# EAGLE library part CONN_FPC_10 (library PX4FMUlite_V0_1)
10-pin FPC connector for PX4 sensor board
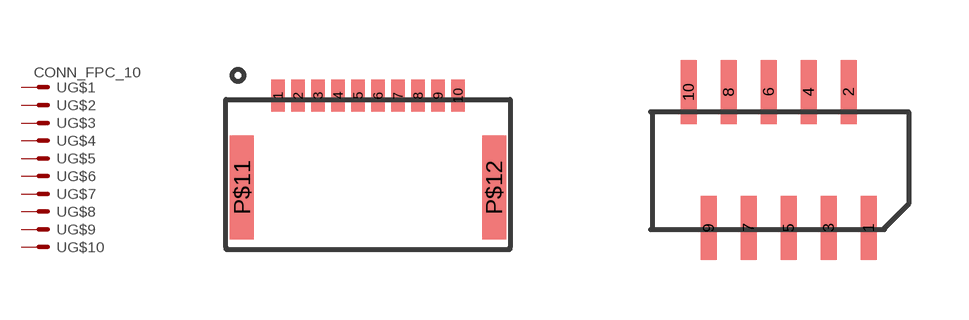
[diagram p7: symbol with the pads of 51281-1094; footprints 51281-1094, 78119-0108]

Designator prefix -; gates G$1=KV G$2=K G$3=K G$4=K G$5=K G$6=K G$7=K G$8=K G$9=K G$10=K

## CONN_FPC_10RA  [51281-1094]
1  G$1:S  pas
2  G$2:S  pas
3  G$3:S  pas
4  G$4:S  pas
5  G$5:S  pas
6  G$6:S  pas
7  G$7:S  pas
8  G$8:S  pas
9  G$9:S  pas
10  G$10:S  pas

## CONN_FPC_10VERT  [78119-0108]
Pads as for 51281-1094

## Footprint 51281-1094 (pad centres in mm)
Molex 51281-1094 10-way 0.5mm RA LIF FPC connector.
smd 0.34 x 0.8: 1 0,0; 2 0.5,0; 3 1,0; 4 1.5,0; 5 2,0; 6 2.5,0; 7 3,0; 8 3.5,0; 9 4,0; 10 4.5,0
smd 0.6 x 2.6: P$11 -0.9,-2.3; P$12 5.4,-2.3

## Footprint 78119-0108 (pad centres in mm)
Molex 78119-0108 0.5mm 10pos vertical LIF FPC connector
smd 0.4 x 1.6: 1 0,0; 2 -0.5,3.4; 3 -1,0; 4 -1.5,3.4; 5 -2,0; 6 -2.5,3.4; 7 -3,0; 8 -3.5,3.4; 9 -4,0; 10 -4.5,3.4